# Altium footprint library PCB_PROJECT.PcbLib: 26 footprints (part 1 of 2)
Each footprint in its own frame and in the unit in brackets; x right, y up, seen from the top. Pads: shape width x height; smd on the part's side, far side on the other; paste and mask are expansions set on the pad; w line width, h text height; cw(c..) or ccw(c..) is an arc to the next point about the centre after c.
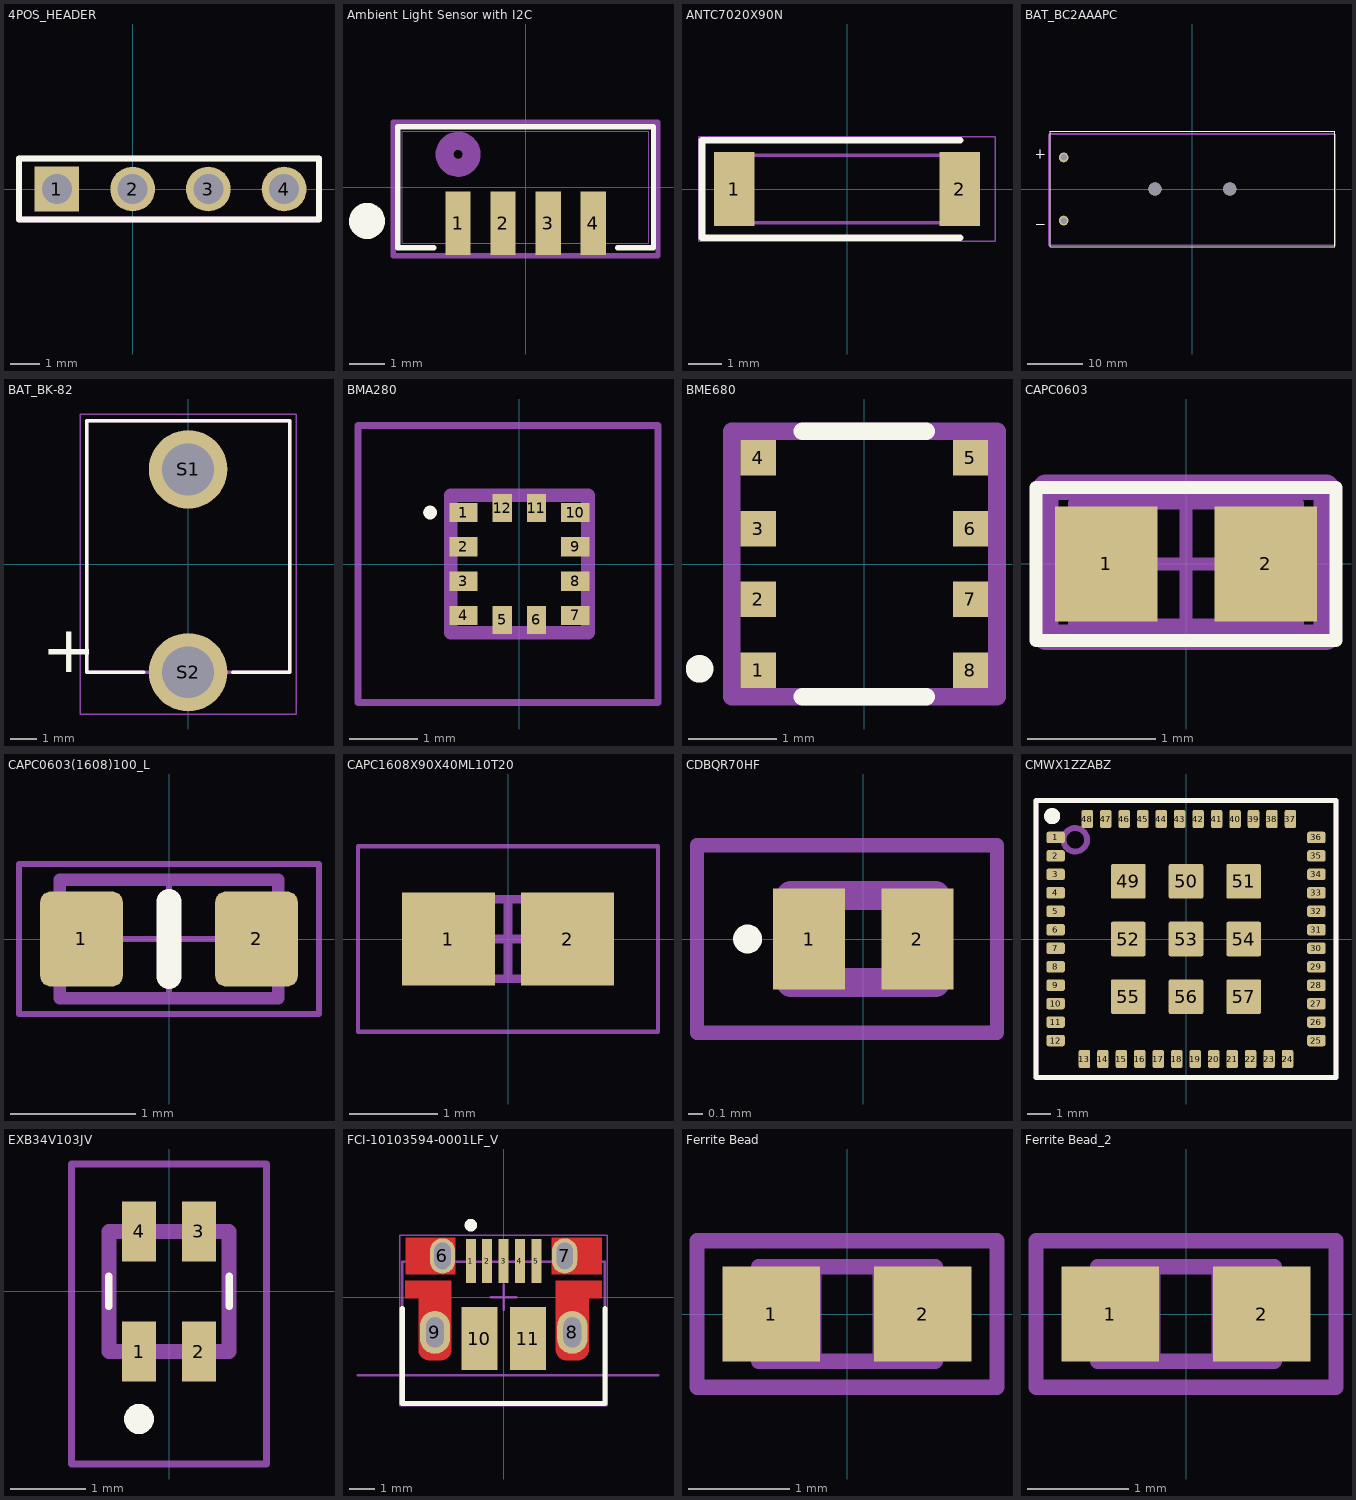
[diagram p0: the footprints below, top view; thin cyan lines are the x and y axes]

## 4POS_HEADER [mm]
pads (4):
  rect 1.5x1.5 hole 1: 1(-2.54,0)
  round 1.5 hole 1: 2(0,0) 3(2.54,0) 4(5.08,0)
Top Overlay:
  lines w0.2: -3.81,-1.015 -3.81,1.02 6.25,1.02 6.25,-1.015 -3.81,-1.015
Mechanical 15:
  lines w0.1: -0.254,0 0.254,0 ; 0,-0.254 0,0.254 ; -3.81,-1.016 -3.81,1.02 6.25,1.02 6.25,-1.016 -3.81,-1.016
Mechanical 29:
  lines w0.2: -3.81,-1.015 6.25,-1.015 6.25,1.02 -3.81,1.02 -3.81,-1.015
  text "'.Designator'" at -2.25,-0.25 h0.51
3D body: height 11.34, standoff -3, extent 1.67,-0.84 3.37,0.86
3D body: height 11.34, standoff -3, extent -0.87,-0.84 0.83,0.86
3D body: height 11.34, standoff -3, extent -3.37,-0.84 -1.67,0.86
3D body: height 4.5, standoff -0.03, extent -3.8,-1.025 3.825,1.025

## Ambient Light Sensor with I2C [mil]
pads (4):
  rect 28x70 smd: 1(-75,-40) 2(-25,-40) 3(25,-40) 4(75,-40)
Top Overlay:
  lines w6: -102.05,-67 -142,-67 -142,67 142,67 142,-67 102.05,-67
  lines w20: -166.23,-36.42 ccw(c-176.18,-37.4) -166.18,-37.4
Mechanical 1:
  circle w20: c-75,36.61 r15
  lines w1: -137,-62 137,-62 137,62 -137,62 -137,-62
Mechanical 16:
  lines w6: -147,-75.89 -147,72 147,72 147,-75.89 -147,-75.89
3D body: height 90.55, standoff 0, extent -136.81,-62.01 137.8,62.01
3D body: height 39.37, standoff 0, extent -29.53,0.98 29.53,44.29

## ANTC7020X90N [mm]
pads (2):
  rect 1.2x2.2 smd: 1(-3.35,0) 2(3.35,0)
Top Overlay:
  lines w0.2: 3.35,-1.45 -4.3,-1.45 -4.3,1.45 3.35,1.45
Mechanical 13:
  lines w0.1: -3.5,0.4 -2.9,1 ; -3.5,-1 3.5,-1 3.5,1 -3.5,1 -3.5,-1
Mechanical 15:
  lines w0.05: -4.4,-1.55 4.4,-1.55 4.4,1.55 -4.4,1.55 -4.4,-1.55
3D body "0900AT43A0070E.stp": height 0.9, standoff 0, extent -3.5,-1 3.5,1

## BAT_BC2AAAPC [mm]
pads (4):
  round 1.755 hole 1.17: NEG(-23.205,-5.69) POS(-23.205,5.69)
  round 2.37 hole 2.37 unplated: ""(-6.745,0) ""(6.755,0)
Top Overlay:
  lines w0.127: -28.2,-6.4 -26.7,-6.4 ; -28.2,6.3 -26.7,6.3 ; -27.45,5.55 -27.45,7.05 ; -25.655,-10.414 -12.828,-10.414 12.828,-10.414 25.655,-10.414 25.655,10.414 12.828,10.414 -12.828,10.414 -25.655,10.414 -25.655,-10.414
Mechanical 13:
  lines w0.127: -28.2,-6.4 -26.7,-6.4 ; -28.2,6.3 -26.7,6.3 ; -27.45,5.55 -27.45,7.05 ; -25.655,-10.033 -25.655,10.033 25.655,10.033 25.655,-10.033 -25.655,-10.033
Mechanical 15:
  lines w0.05: -25.905,9.779 -25.905,-10.16 25.905,-10.16 25.905,9.906 ; -25.905,9.838 -12.953,9.838 12.953,9.838 25.905,9.838

## BAT_BK-82 [mm]
pads (2):
  round 2.95 hole 1.95: S1(0,3.555) S2(0,-4.065)
Top Overlay:
  lines w0.127: -1.67,-4.065 -3.81,-4.065 -3.81,5.385 3.81,5.385 3.81,-4.065 1.67,-4.065
  text "+" at -5.5,-4.065 h1.78
Mechanical 13:
  lines w0.127: -3.81,-4.065 3.81,-4.065 3.81,5.385 -3.81,5.385 -3.81,-4.065
  text "+" at -5.5,-4.065 h1.78
Mechanical 15:
  lines w0.05: -4.06,-5.635 -4.06,5.635 4.06,5.635 4.06,-5.635 -4.06,-5.635
3D body "step_temp.STEP": height 16.76, standoff 0, extent -5.27,-4.725 5.27,4.721

## BMA280 [mm]
pads (12):
  rect 0.41x0.28 smd: 1(-0.815,0.75) 2(-0.815,0.25) 3(-0.815,-0.25) 4(-0.815,-0.75) 7(0.815,-0.75) 8(0.815,-0.25) 9(0.815,0.25) 10(0.815,0.75)
  rect 0.28x0.41 smd: 5(-0.25,-0.815) 6(0.25,-0.815) 11(0.25,0.815) 12(-0.25,0.815)
Top Overlay:
  lines w0.1: -1.35,0.75 ccw(c-1.3,0.75) -1.25,0.75 ccw(c-1.3,0.75) -1.35,0.75
Mechanical 13:
  lines w0.2: -1,-1 -1,1 1,1 1,-1 -1,-1
Mechanical 15:
  lines w0.1: -2.35,-2.02 -2.35,2.02 2.02,2.02 2.02,-2.02 -2.35,-2.02
3D body "BMA280.stp": height 1.1, standoff 0, extent -1,-1 1,1

## BME680 [mm]
pads (8):
  rect 0.4x0.4 smd: 1(-1.2,-1.2) 2(-1.2,-0.4) 3(-1.2,0.4) 4(-1.2,1.2) 5(1.2,1.2) 6(1.2,0.4) 7(1.2,-0.4) 8(1.2,-1.2)
Top Overlay:
  circle w0.254: c-1.863,-1.186 r0.029
  lines w0.2: -0.7,-1.5 0.7,-1.5 ; -0.7,1.5 0.7,1.5
Mechanical 13:
  lines w0.2: -1.5,-1.5 -1.5,1.5 1.5,1.5 1.5,-1.5 -1.5,-1.5

## CAPC0603 [mm]
pads (2):
  rect 0.8x0.9 smd: 1(-0.625,0) 2(0.625,0)
Top Overlay:
  lines w0.1: -1.175,-0.6 1.175,-0.6 1.175,0.6 -1.175,0.6 -1.175,-0.6
Mechanical 13:
  lines w0.1: -0.875,-0.475 -0.875,0.475 0.875,0.475 0.875,-0.475 -0.875,-0.475
Mechanical 15:
  lines w0.05: -1.1,-0.6 -1.1,0.6 1.1,0.6 1.1,-0.6 -1.1,-0.6
  lines w0.1: -0.475,0 0.475,0 ; 0,-0.475 0,0.475
Mechanical 29:
  lines w0.2: -1.1,-0.575 1.1,-0.575 1.1,0.6 -1.1,0.6 -1.1,-0.575
  text "'.Designator'" at -1.1,-0.225 h0.51
3D body: height 0.85, standoff 0, extent -0.525,-0.475 0.525,0.475
3D body: height 0.85, standoff 0, extent -0.875,-0.475 -0.525,0.475
3D body: height 0.85, standoff 0, extent 0.525,-0.475 0.875,0.475

## CAPC0603(1608)100_L [mm]
pads (2):
  rrect25% 0.66x0.76 smd: 1(-0.7,0) 2(0.7,0)
Top Overlay:
  lines w0.2: 0,-0.3 0,0.3
Top Courtyard:
  lines w0.05: -0.475,0 0.475,0 ; 0,-0.475 0,0.475 ; -1.2,-0.6 -1.2,0.6 1.2,0.6 1.2,-0.6 -1.2,-0.6
Top Assembly:
  lines w0.1: -0.875,-0.475 0.875,-0.475 0.875,0.475 -0.875,0.475 -0.875,-0.475
Top Designator:
  text ".Designator" at -1.27,-0.127 h0.51
3D body "CAPC1608X95N EIA 0603.STEP": height 0.95, standoff 0, extent -0.8,-0.4 0.8,0.4

## CAPC1608X90X40ML10T20 [mm]
pads (2):
  rect 1.05x1.05 smd: 1(-0.675,0) 2(0.675,0)
Mechanical 13:
  lines w0.1: -0.85,-0.45 0.85,-0.45 0.85,0.45 -0.85,0.45 -0.85,-0.45
Mechanical 15:
  lines w0.05: -1.7,-1.05 1.7,-1.05 1.7,1.05 -1.7,1.05 -1.7,-1.05
  lines w0.1: -0.45,0 0.45,0 ; 0,-0.45 0,0.45
3D body "CAPC1608X09M.step": height 0.9, standoff 0, extent -0.85,-0.45 0.85,0.45

## CDBQR70HF [mm]
pads (2):
  rect 0.5x0.7 smd: 1(-0.375,0) 2(0.375,0)
Top Overlay:
  lines w0.1: -0.8,-0.05 ccw(c-0.8,0) -0.8,0.05 ccw(c-0.8,0) -0.8,-0.05
Mechanical 13:
  lines w0.2: -0.5,-0.3 0.5,-0.3 0.5,0.3 -0.5,0.3 -0.5,-0.3
Mechanical 15:
  lines w0.1: -1.15,-0.65 0.925,-0.65 0.925,0.65 -1.15,0.65 -1.15,-0.65
3D body "Stackpole CSR0402 Res.STEP": height 0.32, standoff 0, extent -0.5,-0.25 0.55,0.25

## CMWX1ZZABZ [mm]
pads (57):
  rrect40% 0.8x0.5 smd: 1(-5.65,4.4) 2(-5.65,3.6) 3(-5.65,2.8) 4(-5.65,2) 5(-5.65,1.2) 6(-5.65,0.4) 7(-5.65,-0.4) 8(-5.65,-1.2) 9(-5.65,-2) 10(-5.65,-2.8) 11(-5.65,-3.6) 12(-5.65,-4.4) 25(5.65,-4.4) 26(5.65,-3.6) 27(5.65,-2.8) 28(5.65,-2) 29(5.65,-1.2) 30(5.65,-0.4) 31(5.65,0.4) 32(5.65,1.2) 33(5.65,2) 34(5.65,2.8) 35(5.65,3.6) 36(5.65,4.4)
  rrect40% 0.5x0.8 smd: 13(-4.4,-5.2) 14(-3.6,-5.2) 15(-2.8,-5.2) 16(-2,-5.2) 17(-1.2,-5.2) 18(-0.4,-5.2) 19(0.4,-5.2) 20(1.2,-5.2) 21(2,-5.2) 22(2.8,-5.2) 23(3.6,-5.2) 24(4.4,-5.2) 37(4.525,5.2) 38(3.725,5.2) 39(2.925,5.2) 40(2.125,5.2) 41(1.325,5.2) 42(0.525,5.2) 43(-0.275,5.2) 44(-1.075,5.2) 45(-1.875,5.2) 46(-2.675,5.2) 47(-3.475,5.2) 48(-4.275,5.2)
  rrect10% 1.5x1.5 smd: 49(-2.5,2.5) 50(0,2.5) 51(2.5,2.5) 52(-2.5,0) 53(0,0) 54(2.5,0) 55(-2.5,-2.5) 56(0,-2.5) 57(2.5,-2.5)
Top Overlay:
  circle w0.4: c-5.8,5.325 r0.15
  lines w0.203: -6.5,-6 -6.5,6 6.5,6 6.5,-6 -6.5,-6
Top Assembly:
  circle w0.254: c-4.8,4.3 r0.51
  lines w0.203: -6.5,-6 6.5,-6 6.5,6 -6.5,6 -6.5,-6
  text ".designator" at -4.775,-2.075 h0.51
3D body "CMWX1ZZABZ.STEP": height 1.76, standoff 0, extent -6.25,-5.8 6.25,5.8

## EXB34V103JV [mm]
pads (4):
  rect 0.45x0.8 smd: 1(-0.4,-0.8) 2(0.4,-0.8) 3(0.4,0.8) 4(-0.4,0.8)
Top Overlay:
  lines w0.1: -0.8,-0.2 -0.8,0.2 ; 0.8,-0.2 0.8,0.2
  lines w0.2: -0.5,-1.7 ccw(c-0.4,-1.7) -0.3,-1.7 ccw(c-0.4,-1.7) -0.5,-1.7
Mechanical 13:
  lines w0.2: -0.8,-0.8 0.8,-0.8 0.8,0.8 -0.8,0.8 -0.8,-0.8
Mechanical 15:
  lines w0.1: -1.3,-2.3 1.3,-2.3 1.3,1.7 -1.3,1.7 -1.3,-2.3
3D body "EXB34V330JV.stp": height 0.6, standoff 0, extent -0.8,-1.155 0.8,1.155

## FCI-10103594-0001LF_V [mm]
pads (11):
  rect 0.4x1.75 smd: 1(-1.3,1.435) 2(-0.65,1.435) 3(0,1.435) 4(0.65,1.435) 5(1.3,1.435)
  oval 1x1.4 hole 0.65 slot 1.05 at 90 deg: 6(-2.425,1.64) 7(2.425,1.64)
  oval 1.2x1.7 hole 0.7 slot 1.2 at 90 deg: 8(2.725,-1.39) 9(-2.725,-1.39)
  rect 1.425x2.5 smd: 10(-0.962,-1.64) 11(0.962,-1.64)
Top Layer:
  region: 3.9,2.37 1.9,2.37 1.9,0.91 3.9,0.91
  rectangle: -3.9,0.91 -1.9,2.37
  region: 3.375,-0.04 3.375,-2.09 3.373,-2.129 3.369,-2.167 3.365,-2.185 3.359,-2.203 3.348,-2.239 3.329,-2.277 3.308,-2.312 3.284,-2.344 3.258,-2.374 3.227,-2.401 3.194,-2.426 3.158,-2.446 3.121,-2.464 3.08,-2.477 3.049,-2.483 3.012,-2.488 2.975,-2.49 2.475,-2.49 2.432,-2.488 2.391,-2.481 2.351,-2.471 2.312,-2.456 2.28,-2.439 2.249,-2.421 2.217,-2.396 2.19,-2.37 2.164,-2.342 2.143,-2.312 2.121,-2.277 2.105,-2.241 2.093,-2.209 2.088,-2.192 2.084,-2.175 2.08,-2.155 2.076,-2.134 2.075,-2.112 2.075,-2.09 2.075,-0.04 2.075,0.66 3.9,0.66 3.9,-0.04
  region: -3.375,-0.04 -3.375,-2.09 -3.373,-2.129 -3.369,-2.167 -3.365,-2.185 -3.359,-2.203 -3.348,-2.239 -3.329,-2.277 -3.308,-2.312 -3.284,-2.344 -3.258,-2.374 -3.227,-2.401 -3.194,-2.426 -3.158,-2.446 -3.121,-2.464 -3.08,-2.477 -3.049,-2.483 -3.012,-2.488 -2.975,-2.49 -2.475,-2.49 -2.432,-2.488 -2.391,-2.482 -2.351,-2.471 -2.312,-2.456 -2.28,-2.439 -2.249,-2.421 -2.217,-2.397 -2.19,-2.37 -2.164,-2.342 -2.143,-2.312 -2.121,-2.277 -2.105,-2.241 -2.093,-2.209 -2.088,-2.192 -2.084,-2.175 -2.08,-2.155 -2.076,-2.134 -2.075,-2.112 -2.075,-2.09 -2.075,-0.04 -2.075,0.66 -3.9,0.66 -3.9,-0.04
Top Overlay:
  circle w0.25: c-1.3,2.86 r0.125
  lines w0.2: -4.02,-2.077 -4.02,-4.21 ; -4.02,-0.44 -4.02,-4.21 ; 4.02,-0.44 4.02,-4.21 -4.02,-4.21
Mechanical 1:
  lines w0.1: -5.775,-3.09 6.125,-3.09
  text "PCB Edge" at 4.425,-2.83 h0.51
Mechanical 13:
  lines w0.1: -4.02,-4.21 -4.02,1.41 4.02,1.41 4.02,-4.21 -4.02,-4.21
Mechanical 15:
  lines w0.05: -4.12,-4.31 -4.12,2.47 4.12,2.47 4.12,-4.31 -4.12,-4.31
  lines w0.1: -0.5,0 0.5,0 ; 0,-0.5 0,0.5
3D body "10103594.stp": height 2.9, standoff -0.7, extent -4.02,-4.149 4.02,1.884

## Ferrite Bead [mil]
pads (2):
  rect 38x37 smd: 1(-29.5,0) 2(29.5,0)
Mechanical 1:
  lines w1: -34.5,-18.5 -34.5,18.5 ; -34.5,-18.5 -10.5,-18.5 -10.5,18.5 -34.5,18.5 ; -34.5,-18.5 34.5,-18.5 ; -34.5,-18.5 -34.5,18.5 ; -34.5,18.5 34.5,18.5 ; 34.5,-18.5 10.5,-18.5 10.5,18.5 34.5,18.5 ; 34.5,-18.5 34.5,18.5 ; 34.5,-18.5 34.5,18.5
Mechanical 16:
  lines w6: -58.5,-28.5 -58.5,28.5 58.5,28.5 58.5,-28.5 -58.5,-28.5 ; -34.5,-18.5 -34.5,18.5 34.5,18.5 34.5,-18.5 -34.5,-18.5
3D body "IND_BLM18_0603_MUR.step": height 37.01, standoff 0, extent -34.49,-18.5 34.49,18.51

## Ferrite Bead_2 [mil]
pads (2):
  rect 38x37 smd: 1(-29.5,0) 2(29.5,0)
Mechanical 1:
  lines w1: -34.5,-18.5 -34.5,18.5 ; -34.5,-18.5 -10.5,-18.5 -10.5,18.5 -34.5,18.5 ; -34.5,-18.5 34.5,-18.5 ; -34.5,-18.5 -34.5,18.5 ; -34.5,18.5 34.5,18.5 ; 34.5,-18.5 10.5,-18.5 10.5,18.5 34.5,18.5 ; 34.5,-18.5 34.5,18.5 ; 34.5,-18.5 34.5,18.5
Bottom Courtyard:
  lines w6: -58.5,-28.5 -58.5,28.5 58.5,28.5 58.5,-28.5 -58.5,-28.5 ; -34.5,-18.5 -34.5,18.5 34.5,18.5 34.5,-18.5 -34.5,-18.5
3D body "IND_BLM18_0603_MUR.step": height 37.01, standoff 0, extent -34.49,-18.5 34.49,18.51